# Altium schematic symbol library Relais.SchLib: 3 symbols
Pins are listed as number, name and electrical type; pins without a type are passive.

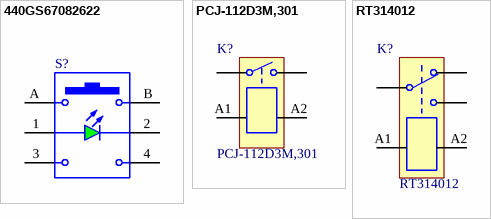
[diagram p0: symbols 440GS67082622 to RT314012]

## 440GS67082622
designator S?
WS-TATL Illuminated THT Tact Switch, Green; Part Number: 440GS67082622; Operation Force: 220gf; Rated Voltage: 12VDC; Rated Current: 50mA; ComponentLink1Description: Manufacturer; ComponentLink1URL: http://www.we-online.de; ComponentLink2Description: Datasheet; ComponentLink2URL: https://katalog.we-online.com/em/datasheet/440GS67082622.pdf; Published Date: September 2019; Publisher: Wurth Elektronik; Contact Material: Stainless Steel; Emitting Color: Green; Mounting Technology: THT; Contact Plating: Silver; Packaging: ESD Tray; Size: 12x12mm; Operating Temperature: -40 to +85degC; Terminal Plating: Silver; Terminal Material: Copper Alloy
footprint 440xx67082622
pins: 1, 2, 3, 4, A, B

## PCJ-112D3M,301
designator K?
RELAY GEN PURPOSE SPST 3A 12V; Manufacturer: TE CONNECTIVITY; ComponentLink1URL: http://www.te.com/commerce/DocumentDelivery/DDEController?Action=showdoc&DocId=Data+Sheet%7FPCJ_series_relay_data_sheet_E%7F0911%7Fpdf%7FEnglish%7FENG_DS_PCJ_series_relay_data_sheet_E_0911.pdf%7F1721081-5; ComponentLink1Description: Datasheet; Manufacturer Part Number: PCJ-112D3M,301; Supplier 1: Farnell; Supplier Part Number 1: 1891888
footprint TE-PCJ-112D3M_301 (Miniature PCB Relay PCJ)
pins: 11, 14, A1 +, A2 -

## RT314012
designator K?
RELAY GEN PURPOSE SPST 16A 12V; Manufacturer: TE CONNECTIVITY; ComponentLink1URL: http://www.te.com/commerce/DocumentDelivery/DDEController?Action=showdoc&DocId=Data+Sheet%7FRT1%7F1014%7Fpdf%7FEnglish%7FENG_DS_RT1_1014.pdf%7F9-1393239-5; ComponentLink1Description: Datasheet; Manufacturer Part Number: RT314012; Supplier 1: Farnell; Supplier Part Number 1: 1629044
footprint TE-RT314012 (Power PCB Relay RT1 16A 5MM)
pins: A1 +, A2 -, A11 11, A12 12, A14 14, B11 11 hidden to A11, B12 12 hidden to A12, B14 14 hidden to A14